# Altium footprint library TO_220_3_MOSFET.PcbLib: 1 footprints
Each footprint in its own frame and in the unit in brackets; x right, y up, seen from the top. Pads: shape width x height; smd on the part's side, far side on the other; paste and mask are expansions set on the pad; w line width, h text height; cw(c..) or ccw(c..) is an arc to the next point about the centre after c.
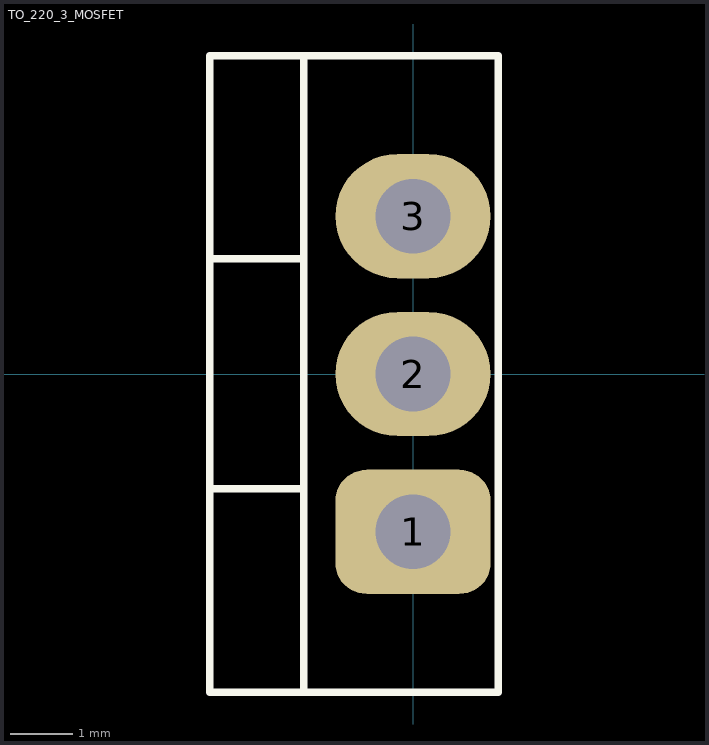
[diagram p0: the footprint, top view; thin cyan lines are the x and y axes]

## TO_220_3_MOSFET [mm] "TO_220_3_MOSFET"
pads (3):
  rrect50% 2.5x2 hole 1.2 paste-2: 1(0,-2.54)
  rrect100% 2.5x2 hole 1.2 paste-2: 2(0,0) 3(0,2.54)
Top Overlay:
  lines w0.12: -3.27,-1.85 -1.76,-1.85 ; -3.27,1.851 -1.76,1.851 ; -1.76,-5.12 -1.76,5.12 ; -3.27,-5.12 -3.27,5.12 1.371,5.12 1.371,-5.12 -3.27,-5.12
Mechanical 1:
  lines w0.1: -3.27,-1.85 -1.76,-1.85 ; -3.27,1.851 -1.76,1.851 ; -3.15,-1.85 -1.88,-1.85 ; -3.15,1.85 -1.88,1.85 ; -1.76,-5.12 -1.76,5.12 ; -3.27,-5.12 -3.27,5.12 1.371,5.12 1.371,-5.12 -3.27,-5.12
  text ".Designator" at -0.376,0 h2
Mechanical 15:
  text "+" at -1.025,-1.5 h3
3D body "MOSFET v2.step": height 23.62, standoff -6.52, extent -3.293,-5.27 1.397,5.27